# EAGLE library part CD4043BEE4 (library CD4043BEE4)
Latch Transparent 3-ST 4-CH SR-Type 16-Pin PDIP Tube Source: Datasheet <https://www.arrow.com/en/products/cd4043bee4/texas-instruments>
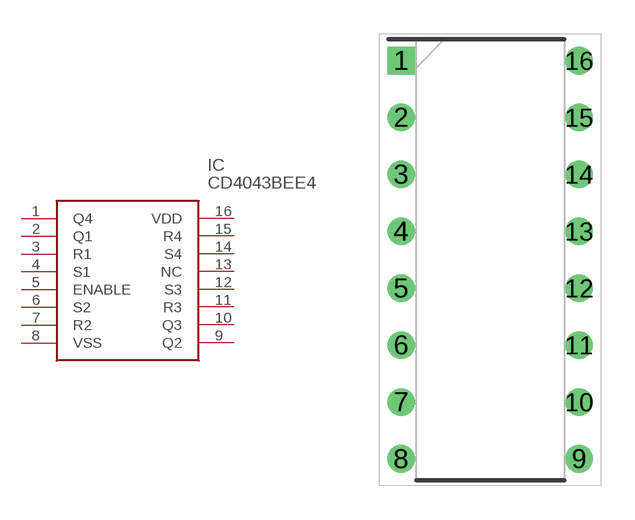
[diagram p0: symbol with the pads of DIP794W53P254L1930H508Q16N; footprint DIP794W53P254L1930H508Q16N]

Designator prefix IC

## CD4043BEE4 (Description: Latch Transparent 3-ST 4-CH SR-Type 16-Pin PDIP Tube; Height: 5.08mm; Manufacturer_Name: Texas Instruments; Manufacturer_Part_Number: CD4043BEE4; Mouser_Part_Number: 595-CD4043BEE4; Mouser_Price-Stock: https://www.mouser.co.uk/ProductDetail/Texas-Instruments/CD4043BEE4?qs=LSR%252BNeaw%2FwCLzQGHF2OlCw%3D%3D)  [DIP794W53P254L1930H508Q16N]
1  Q4
2  Q1
3  R1
4  S1
5  ENABLE
6  S2
7  R2
8  VSS
9  Q2
10  Q3
11  R3
12  S3
13  NC  nc
14  S4
15  R4
16  VDD

## Footprint DIP794W53P254L1930H508Q16N (pad centres in mm)
N (R-PDIP-T16
drill 0.73 pad 1.13 square: 1 -3.97,8.89
drill 0.73 pad 1.13: 2 -3.97,6.35; 3 -3.97,3.81; 4 -3.97,1.27; 5 -3.97,-1.27; 6 -3.97,-3.81; 7 -3.97,-6.35; 8 -3.97,-8.89; 9 3.97,-8.89; 10 3.97,-6.35; 11 3.97,-3.81; 12 3.97,-1.27; 13 3.97,1.27; 14 3.97,3.81; 15 3.97,6.35; 16 3.97,8.89